# EAGLE library part SAM2695 (library we-chip)
Dream SAM2695 MIDI Synthesizer
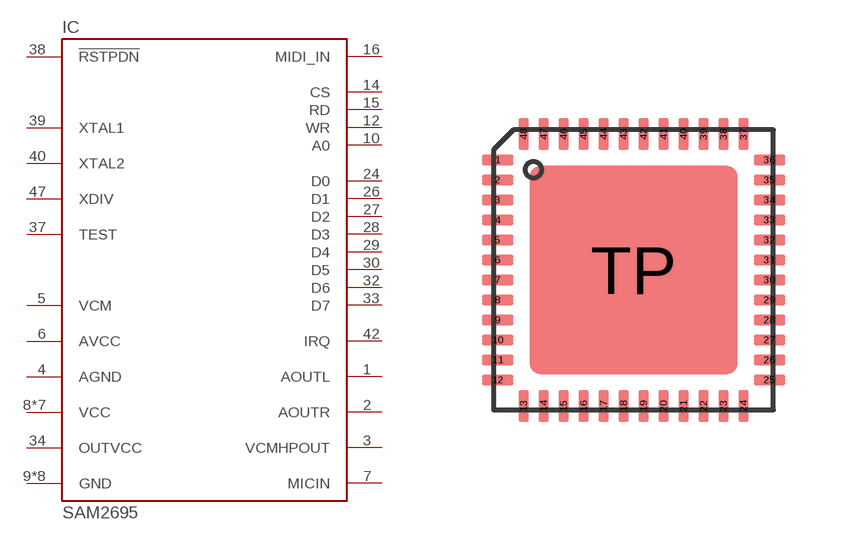
[diagram p54: symbol with the pads of QFN48-PAD; footprint QFN48-PAD]

Designator prefix IC

## SAM2695  [QFN48-PAD]
1  AOUTL
2  AOUTR
3  VCMHPOUT
4  AGND  pwr
5  VCM  pwr
6  AVCC  pwr
7  MICIN
8  VCC  pwr
9  GND  pwr
10  A0  in
11  VCC  pwr
12  WR  in
13  GND  pwr
14  CS  in
15  RD  in
16  MIDI_IN
18  GND  pwr
20  VCC  pwr
24  D0
25  GND  pwr
26  D1
27  D2
28  D3
29  D4
30  D5
31  VCC  pwr
32  D6
33  D7
34  OUTVCC  pas
35  VCC  pwr
36  GND  pwr
37  TEST  in
38  !RSTPDN
39  XTAL1
40  XTAL2
41  VCC  pwr
42  IRQ
45  GND  pwr
46  VCC  pwr
47  XDIV
48  GND  pwr
TP  GND  pwr

## Footprint QFN48-PAD (pad centres in mm)
smd 0.8 x 0.26: 1 -3.4,2.75; 2 -3.4,2.25; 3 -3.4,1.75; 4 -3.4,1.25; 5 -3.4,0.75; 6 -3.4,0.25; 7 -3.4,-0.25; 8 -3.4,-0.75; 9 -3.4,-1.25; 10 -3.4,-1.75; 11 -3.4,-2.25; 12 -3.4,-2.75; 25 3.4,-2.75; 26 3.4,-2.25; 27 3.4,-1.75; 28 3.4,-1.25; 29 3.4,-0.75; 30 3.4,-0.25; 31 3.4,0.25; 32 3.4,0.75; 33 3.4,1.25; 34 3.4,1.75; 35 3.4,2.25; 36 3.4,2.75
smd 0.26 x 0.8: 13 -2.75,-3.4; 14 -2.25,-3.4; 15 -1.75,-3.4; 16 -1.25,-3.4; 17 -0.75,-3.4; 18 -0.25,-3.4; 19 0.25,-3.4; 20 0.75,-3.4; 21 1.25,-3.4; 22 1.75,-3.4; 23 2.25,-3.4; 24 2.75,-3.4; 37 2.75,3.4; 38 2.25,3.4; 39 1.75,3.4; 40 1.25,3.4; 41 0.75,3.4; 42 0.25,3.4; 43 -0.25,3.4; 44 -0.75,3.4; 45 -1.25,3.4; 46 -1.75,3.4; 47 -2.25,3.4; 48 -2.75,3.4
smd 5.2 x 5.2: TP 0,0